# Altium schematic symbol library EG4D20.SchLib: 2 symbols
Pins are listed as number, name and electrical type; pins without a type are passive.

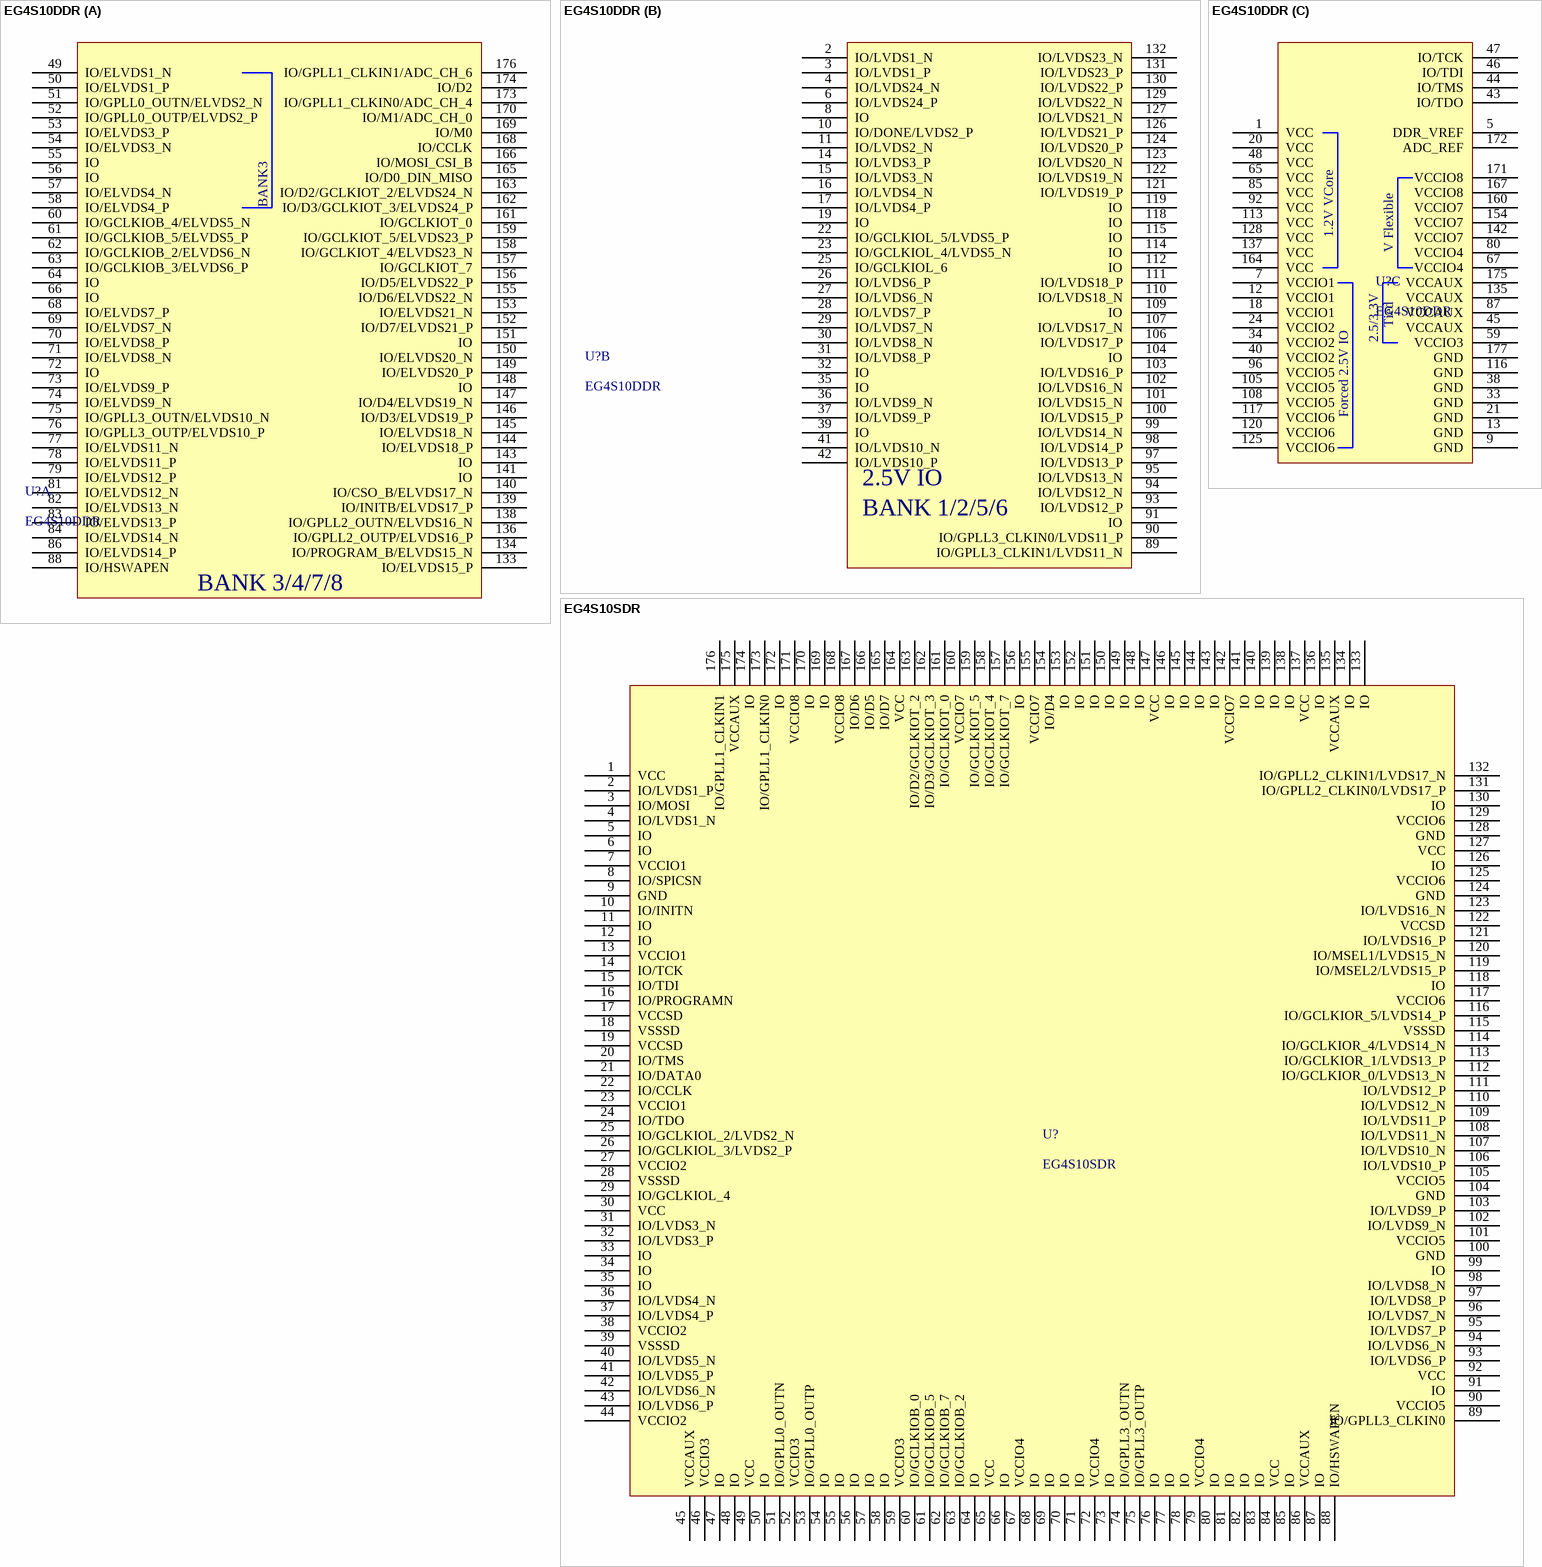
[diagram p0: symbols EG4S10DDR to EG4S10SDR]

## EG4S10DDR
designator U?
part A pins: 49 IO/ELVDS1_N, 50 IO/ELVDS1_P, 51 IO/GPLL0_OUTN/ELVDS2_N, 52 IO/GPLL0_OUTP/ELVDS2_P, 53 IO/ELVDS3_P, 54 IO/ELVDS3_N, 55 IO, 56 IO, 57 IO/ELVDS4_N, 58 IO/ELVDS4_P, 60 IO/GCLKIOB_4/ELVDS5_N, 61 IO/GCLKIOB_5/ELVDS5_P, 62 IO/GCLKIOB_2/ELVDS6_N, 63 IO/GCLKIOB_3/ELVDS6_P, 64 IO, 66 IO, 68 IO/ELVDS7_P, 69 IO/ELVDS7_N, 70 IO/ELVDS8_P, 71 IO/ELVDS8_N, 72 IO, 73 IO/ELVDS9_P, 74 IO/ELVDS9_N, 75 IO/GPLL3_OUTN/ELVDS10_N, 76 IO/GPLL3_OUTP/ELVDS10_P, 77 IO/ELVDS11_N, 78 IO/ELVDS11_P, 79 IO/ELVDS12_P, 81 IO/ELVDS12_N, 82 IO/ELVDS13_N, 83 IO/ELVDS13_P, 84 IO/ELVDS14_N, 86 IO/ELVDS14_P, 88 IO/HSWAPEN  , 133 IO/ELVDS15_P, 134 IO/PROGRAM_B/ELVDS15_N, 136 IO/GPLL2_OUTP/ELVDS16_P, 138 IO/GPLL2_OUTN/ELVDS16_N, 139 IO/INITB/ELVDS17_P, 140 IO/CSO_B/ELVDS17_N, 141 IO, 143 IO, 144 IO/ELVDS18_P, 145 IO/ELVDS18_N, 146 IO/D3/ELVDS19_P, 147 IO/D4/ELVDS19_N, 148 IO, 149 IO/ELVDS20_P, 150 IO/ELVDS20_N, 151 IO, 152 IO/D7/ELVDS21_P, 153 IO/ELVDS21_N, 155 IO/D6/ELVDS22_N, 156 IO/D5/ELVDS22_P, 157 IO/GCLKIOT_7, 158 IO/GCLKIOT_4/ELVDS23_N, 159 IO/GCLKIOT_5/ELVDS23_P, 161 IO/GCLKIOT_0, 162 IO/D3/GCLKIOT_3/ELVDS24_P, 163 IO/D2/GCLKIOT_2/ELVDS24_N, 165 IO/D0_DIN_MISO, 166 IO/MOSI_CSI_B, 168 IO/CCLK, 169 IO/M0, 170 IO/M1/ADC_CH_0, 173 IO/GPLL1_CLKIN0/ADC_CH_4, 174 IO/D2, 176 IO/GPLL1_CLKIN1/ADC_CH_6
part B pins: 2 IO/LVDS1_N, 3 IO/LVDS1_P, 4 IO/LVDS24_N, 6 IO/LVDS24_P, 8 IO, 10 IO/DONE/LVDS2_P, 11 IO/LVDS2_N, 14 IO/LVDS3_P, 15 IO/LVDS3_N, 16 IO/LVDS4_N, 17 IO/LVDS4_P, 19 IO, 22 IO/GCLKIOL_5/LVDS5_P, 23 IO/GCLKIOL_4/LVDS5_N, 25 IO/GCLKIOL_6, 26 IO/LVDS6_P, 27 IO/LVDS6_N, 28 IO/LVDS7_P, 29 IO/LVDS7_N, 30 IO/LVDS8_N, 31 IO/LVDS8_P, 32 IO, 35 IO, 36 IO/LVDS9_N, 37 IO/LVDS9_P, 39 IO, 41 IO/LVDS10_N, 42 IO/LVDS10_P, 89 IO/GPLL3_CLKIN1/LVDS11_N, 90 IO/GPLL3_CLKIN0/LVDS11_P, 91 IO, 93 IO/LVDS12_P, 94 IO/LVDS12_N, 95 IO/LVDS13_N, 97 IO/LVDS13_P, 98 IO/LVDS14_P, 99 IO/LVDS14_N, 100 IO/LVDS15_P, 101 IO/LVDS15_N, 102 IO/LVDS16_N, 103 IO/LVDS16_P, 104 IO, 106 IO/LVDS17_P, 107 IO/LVDS17_N, 109 IO, 110 IO/LVDS18_N, 111 IO/LVDS18_P, 112 IO, 114 IO, 115 IO, 118 IO, 119 IO, 121 IO/LVDS19_P, 122 IO/LVDS19_N, 123 IO/LVDS20_N, 124 IO/LVDS20_P, 126 IO/LVDS21_P, 127 IO/LVDS21_N, 129 IO/LVDS22_N, 130 IO/LVDS22_P, 131 IO/LVDS23_P, 132 IO/LVDS23_N
part C pins: 1 VCC, 5 DDR_VREF, 7 VCCIO1, 9 GND, 12 VCCIO1, 13 GND, 18 VCCIO1, 20 VCC, 21 GND, 24 VCCIO2, 33 GND, 34 VCCIO2, 38 GND, 40 VCCIO2, 43 IO/TDO, 44 IO/TMS, 45 VCCAUX, 46 IO/TDI, 47 IO/TCK, 48 VCC, 59 VCCIO3, 65 VCC, 67 VCCIO4, 80 VCCIO4, 85 VCC, 87 VCCAUX, 92 VCC, 96 VCCIO5, 105 VCCIO5, 108 VCCIO5, 113 VCC, 116 GND, 117 VCCIO6, 120 VCCIO6, 125 VCCIO6, 128 VCC, 135 VCCAUX, 137 VCC, 142 VCCIO7, 154 VCCIO7, 160 VCCIO7, 164 VCC, 167 VCCIO8, 171 VCCIO8, 172 ADC_REF, 175 VCCAUX, 177 GND
part A text: BANK3; BANK 3/4/7/8
part B text: 2.5V IO; BANK 1/2/5/6
part C text: 1.2V VCore; V Flexible; Tied; 2.5/3.3V; Forced 2.5V IO

## EG4S10SDR
designator U?
pins: 1 VCC, 2 IO/LVDS1_P, 3 IO/MOSI, 4 IO/LVDS1_N, 5 IO, 6 IO, 7 VCCIO1, 8 IO/SPICSN, 9 GND, 10 IO/INITN, 11 IO, 12 IO, 13 VCCIO1, 14 IO/TCK, 15 IO/TDI, 16 IO/PROGRAMN, 17 VCCSD, 18 VSSSD, 19 VCCSD, 20 IO/TMS, 21 IO/DATA0, 22 IO/CCLK, 23 VCCIO1, 24 IO/TDO, 25 IO/GCLKIOL_2/LVDS2_N, 26 IO/GCLKIOL_3/LVDS2_P, 27 VCCIO2, 28 VSSSD, 29 IO/GCLKIOL_4, 30 VCC, 31 IO/LVDS3_N, 32 IO/LVDS3_P, 33 IO, 34 IO, 35 IO, 36 IO/LVDS4_N, 37 IO/LVDS4_P, 38 VCCIO2, 39 VSSSD, 40 IO/LVDS5_N, 41 IO/LVDS5_P, 42 IO/LVDS6_N, 43 IO/LVDS6_P, 44 VCCIO2, 45 VCCAUX, 46 VCCIO3, 47 IO, 48 IO, 49 VCC, 50 IO, 51 IO/GPLL0_OUTN, 52 VCCIO3, 53 IO/GPLL0_OUTP, 54 IO, 55 IO, 56 IO, 57 IO, 58 IO, 59 VCCIO3, 60 IO/GCLKIOB_0, 61 IO/GCLKIOB_5, 62 IO/GCLKIOB_7, 63 IO/GCLKIOB_2, 64 IO, 65 VCC, 66 IO, 67 VCCIO4, 68 IO, 69 IO, 70 IO, 71 IO, 72 VCCIO4, 73 IO, 74 IO/GPLL3_OUTN, 75 IO/GPLL3_OUTP, 76 IO, 77 IO, 78 IO, 79 VCCIO4, 80 IO, 81 IO, 82 IO, 83 IO, 84 VCC, 85 IO, 86 VCCAUX, 87 IO, 88 IO/HSWAPEN  , 89 IO/GPLL3_CLKIN0, 90 VCCIO5, 91 IO, 92 VCC, 93 IO/LVDS6_P, 94 IO/LVDS6_N, 95 IO/LVDS7_P, 96 IO/LVDS7_N, 97 IO/LVDS8_P, 98 IO/LVDS8_N, 99 IO, 100 GND, 101 VCCIO5, 102 IO/LVDS9_N, 103 IO/LVDS9_P, 104 GND, 105 VCCIO5, 106 IO/LVDS10_P, 107 IO/LVDS10_N, 108 IO/LVDS11_N, 109 IO/LVDS11_P, 110 IO/LVDS12_N, 111 IO/LVDS12_P, 112 IO/GCLKIOR_0/LVDS13_N, 113 IO/GCLKIOR_1/LVDS13_P, 114 IO/GCLKIOR_4/LVDS14_N, 115 VSSSD, 116 IO/GCLKIOR_5/LVDS14_P, 117 VCCIO6, 118 IO, 119 IO/MSEL2/LVDS15_P, 120 IO/MSEL1/LVDS15_N, 121 IO/LVDS16_P, 122 VCCSD, 123 IO/LVDS16_N, 124 GND, 125 VCCIO6, 126 IO, 127 VCC, 128 GND, 129 VCCIO6, 130 IO, 131 IO/GPLL2_CLKIN0/LVDS17_P, 132 IO/GPLL2_CLKIN1/LVDS17_N, 133 IO, 134 IO, 135 VCCAUX, 136 IO, 137 VCC, 138 IO, 139 IO, 140 IO, 141 IO, 142 VCCIO7, 143 IO, 144 IO, 145 IO, 146 IO, 147 VCC, 148 IO, 149 IO, 150 IO, 151 IO, 152 IO, 153 IO, 154 IO/D4, 155 VCCIO7, 156 IO, 157 IO/GCLKIOT_7, 158 IO/GCLKIOT_4, 159 IO/GCLKIOT_5, 160 VCCIO7, 161 IO/GCLKIOT_0, 162 IO/D3/GCLKIOT_3, 163 IO/D2/GCLKIOT_2, 164 VCC, 165 IO/D7, 166 IO/D5, 167 IO/D6, 168 VCCIO8, 169 IO, 170 IO, 171 VCCIO8, 172 IO, 173 IO/GPLL1_CLKIN0, 174 IO, 175 VCCAUX, 176 IO/GPLL1_CLKIN1